# Altium footprint library ASSB.PcbLib: 3 footprints
Each footprint in its own frame and in the unit in brackets; x right, y up, seen from the top. Pads: shape width x height; smd on the part's side, far side on the other; paste and mask are expansions set on the pad; w line width, h text height; cw(c..) or ccw(c..) is an arc to the next point about the centre after c.
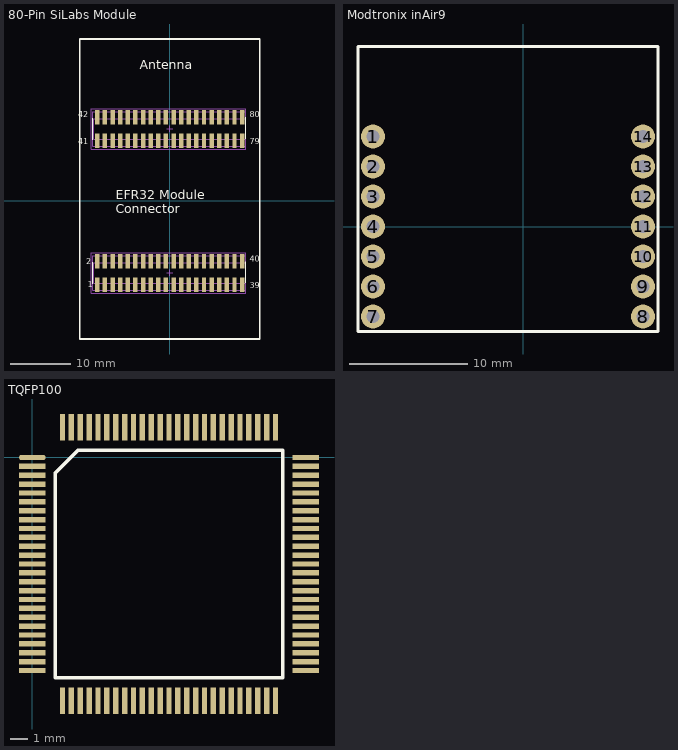
[diagram p0: the footprints below, top view; thin cyan lines are the x and y axes]

## 80-Pin SiLabs Module [mm] "Pin Header, pitch 1.27 mm, SMD, Vertical, dual row, 50p"
height 4.45
pads (80):
  rect 0.74x2.4 smd: 1(-12.065,-13.95) 2(-12.065,-10.05) 3(-10.795,-13.95) 4(-10.795,-10.05) 5(-9.525,-13.95) 6(-9.525,-10.05) 7(-8.255,-13.95) 8(-8.255,-10.05) 9(-6.985,-13.95) 10(-6.985,-10.05) 11(-5.715,-13.95) 12(-5.715,-10.05) 13(-4.445,-13.95) 14(-4.445,-10.05) 15(-3.175,-13.95) 16(-3.175,-10.05) 17(-1.905,-13.95) 18(-1.905,-10.05) 19(-0.635,-13.95) 20(-0.635,-10.05) 21(0.635,-13.95) 22(0.635,-10.05) 23(1.905,-13.95) 24(1.905,-10.05) 25(3.175,-13.95) 26(3.175,-10.05) 27(4.445,-13.95) 28(4.445,-10.05) 29(5.715,-13.95) 30(5.715,-10.05) 31(6.985,-13.95) 32(6.985,-10.05) 33(8.255,-13.95) 34(8.255,-10.05) 35(9.525,-13.95) 36(9.525,-10.05) 37(10.795,-13.95) 38(10.795,-10.05) 39(12.065,-13.95) 40(12.065,-10.05) 41(-12.065,10.066) 42(-12.065,13.966) 43(-10.795,10.066) 44(-10.795,13.966) 45(-9.525,10.066) 46(-9.525,13.966) 47(-8.255,10.066) 48(-8.255,13.966) 49(-6.985,10.066) 50(-6.985,13.966) 51(-5.715,10.066) 52(-5.715,13.966) 53(-4.445,10.066) 54(-4.445,13.966) 55(-3.175,10.066) 56(-3.175,13.966) 57(-1.905,10.066) 58(-1.905,13.966) 59(-0.635,10.066) 60(-0.635,13.966) 61(0.635,10.066) 62(0.635,13.966) 63(1.905,10.066) 64(1.905,13.966) 65(3.175,10.066) 66(3.175,13.966) 67(4.445,10.066) 68(4.445,13.966) 69(5.715,10.066) 70(5.715,13.966) 71(6.985,10.066) 72(6.985,13.966) 73(8.255,10.066) 74(8.255,13.966) 75(9.525,10.066) 76(9.525,13.966) 77(10.795,10.066) 78(10.795,13.966) 79(12.065,10.066) 80(12.065,13.966)
Top Overlay:
  lines w0.2: -12.85,-13.775 -12.85,-10.225 ; -12.85,10.241 -12.85,13.791 ; 12.7,-13.645 12.7,-10.095 ; 12.7,10.371 12.7,13.921
  lines w0.254: -15,-23 -15,27 15,27 15,-23 0,-23 -15,-23
  text "EFR32 Module / Connector" at -9,-2 h1.52
  text "41" at -15.24,9.476 h1
  text "42" at -15.24,13.921 h1
  text "79" at 13.335,9.476 h1
  text "80" at 13.335,13.921 h1
  text "40" at 13.335,-10.095 h1
  text "39" at 13.335,-14.54 h1
  text "2" at -13.925,-10.5 h1
  text "1" at -13.625,-14.4 h1
  text "Antenna" at -5,22 h1.52
Mechanical 11:
  lines w0.1: -12.7,-13.7 12.7,-13.7 12.7,-10.3 -12.7,-10.3 -12.7,-13.7 ; -12.7,10.316 -12.7,13.716 12.7,13.716 12.7,10.316 -12.7,10.316
Mechanical 13:
  lines w0.1: -12.85,-14.875 12.7,-14.875 12.7,-9.125 -12.85,-9.125 -12.85,-14.875 ; -12.85,9.141 -12.85,14.891 12.7,14.891 12.7,9.141 -12.85,9.141
Mechanical 15:
  lines w0.1: -0.5,-12 0.5,-12 ; -0.5,12.016 0.5,12.016 ; 0,-12.5 0,-11.5 ; 0,11.516 0,12.516 ; -13.05,-15.35 12.7,-15.35 12.7,-8.65 -13.05,-8.65 -13.05,-15.35 ; -13.05,8.666 -13.05,15.366 12.7,15.366 12.7,8.666 -13.05,8.666

## Modtronix inAir9 [mil] "Modtronix inAir9"
pads (14):
  round 80 hole 43.31: 1(-500,300) 2(-500,200) 3(-500,100) 4(-500,0) 5(-500,-100) 6(-500,-200) 7(-500,-300) 8(400,-300) 9(400,-200) 10(400,-100) 11(400,0) 12(400,100) 13(400,200) 14(400,300)
Top Overlay:
  lines w10: -550,-350 450,-350 450,600 -550,600 -550,-350

## TQFP100 [mm]
pads (100):
  oval 1.5x0.3 smd: 1(0,0)
  rect 1.5x0.3 smd: 2(0,-0.5) 3(0,-1) 4(0,-1.5) 5(0,-2) 6(0,-2.5) 7(0,-3) 8(0,-3.5) 9(0,-4) 10(0,-4.5) 11(0,-5) 12(0,-5.5) 13(0,-6) 14(0,-6.5) 15(0,-7) 16(0,-7.5) 17(0,-8) 18(0,-8.5) 19(0,-9) 20(0,-9.5) 21(0,-10) 22(0,-10.5) 23(0,-11) 24(0,-11.5) 25(0,-12) 51(15.4,-12) 52(15.4,-11.5) 53(15.4,-11) 54(15.4,-10.5) 55(15.4,-10) 56(15.4,-9.5) 57(15.4,-9) 58(15.4,-8.5) 59(15.4,-8) 60(15.4,-7.5) 61(15.4,-7) 62(15.4,-6.5) 63(15.4,-6) 64(15.4,-5.5) 65(15.4,-5) 66(15.4,-4.5) 67(15.4,-4) 68(15.4,-3.5) 69(15.4,-3) 70(15.4,-2.5) 71(15.4,-2) 72(15.4,-1.5) 73(15.4,-1) 74(15.4,-0.5) 75(15.4,0)
  rect 0.3x1.5 smd: 26(1.7,-13.7) 27(2.2,-13.7) 28(2.7,-13.7) 29(3.2,-13.7) 30(3.7,-13.7) 31(4.2,-13.7) 32(4.7,-13.7) 33(5.2,-13.7) 34(5.7,-13.7) 35(6.2,-13.7) 36(6.7,-13.7) 37(7.2,-13.7) 38(7.7,-13.7) 39(8.2,-13.7) 40(8.7,-13.7) 41(9.2,-13.7) 42(9.7,-13.7) 43(10.2,-13.7) 44(10.7,-13.7) 45(11.2,-13.7) 46(11.7,-13.7) 47(12.2,-13.7) 48(12.7,-13.7) 49(13.2,-13.7) 50(13.7,-13.7) 76(13.7,1.7) 77(13.2,1.7) 78(12.7,1.7) 79(12.2,1.7) 80(11.7,1.7) 81(11.2,1.7) 82(10.7,1.7) 83(10.2,1.7) 84(9.7,1.7) 85(9.2,1.7) 86(8.7,1.7) 87(8.2,1.7) 88(7.7,1.7) 89(7.2,1.7) 90(6.7,1.7) 91(6.2,1.7) 92(5.7,1.7) 93(5.2,1.7) 94(4.7,1.7) 95(4.2,1.7) 96(3.7,1.7) 97(3.2,1.7) 98(2.7,1.7) 99(2.2,1.7) 100(1.7,1.7)
Top Overlay:
  lines w0.2: 1.285,-12.415 1.285,-0.87 2.57,0.415 14.115,0.415 14.115,-12.415 1.285,-12.415